# EAGLE library part MOLEX_206832-0601 (library Labops_Lib_AH)
Connector Header Through Hole 6 position 0.118" (3.00mm)
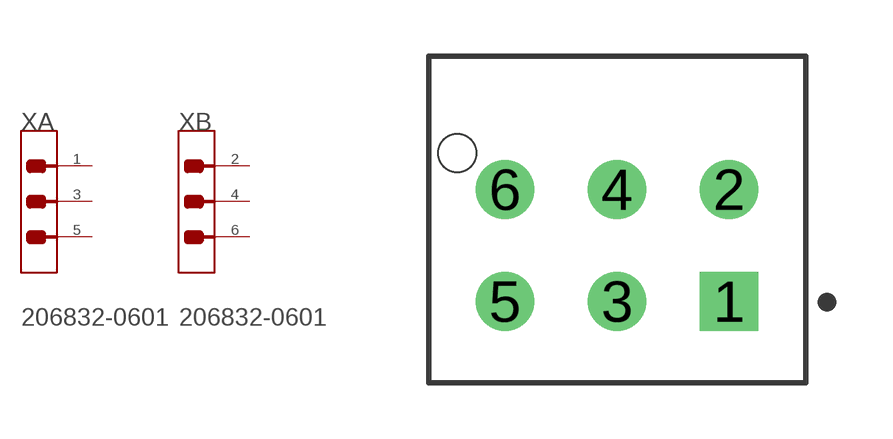
[diagram p70: symbol with the pads of MOLEX_206832-0601; footprint MOLEX_206832-0601]

Designator prefix X; gates A=MOLEX_206832-0601_0_0 B=MOLEX_206832-0601_0_1

## MOLEX_206832-0601MOLEX_206832-0601 (DESCRIPTION: Connector Header Through Hole 6 position 3mm Microfit; LIB_STATUS: Prototype; MFN: 206832-0601; MFR: Molex; OUR_STOCK: 20; PART_VALUE: 6CCT x 2Row; PRICE-1: 1.32; SUPPLIER-1: Digikey)  [MOLEX_206832-0601]
1  A:1  pas
2  B:2  pas
3  A:3  pas
4  B:4  pas
5  A:5  pas
6  B:6  pas

## Footprint MOLEX_206832-0601 (pad centres in mm)
Connector Header Through Hole 6 position 0.118" (3.00mm)
drill 1.02 pad 1.57 square: 1 3,-2.2
drill 1.02 pad 1.57: 2 3,0.8; 3 0,-2.2; 4 0,0.8; 5 -3,-2.2; 6 -3,0.8
hole 1.02 at -4.28,1.78